# Altium footprint library nnts_brad.PcbLib: 22 footprints (part 1 of 2)
Each footprint in its own frame and in the unit in brackets; x right, y up, seen from the top. Pads: shape width x height; smd on the part's side, far side on the other; paste and mask are expansions set on the pad; w line width, h text height; cw(c..) or ccw(c..) is an arc to the next point about the centre after c.
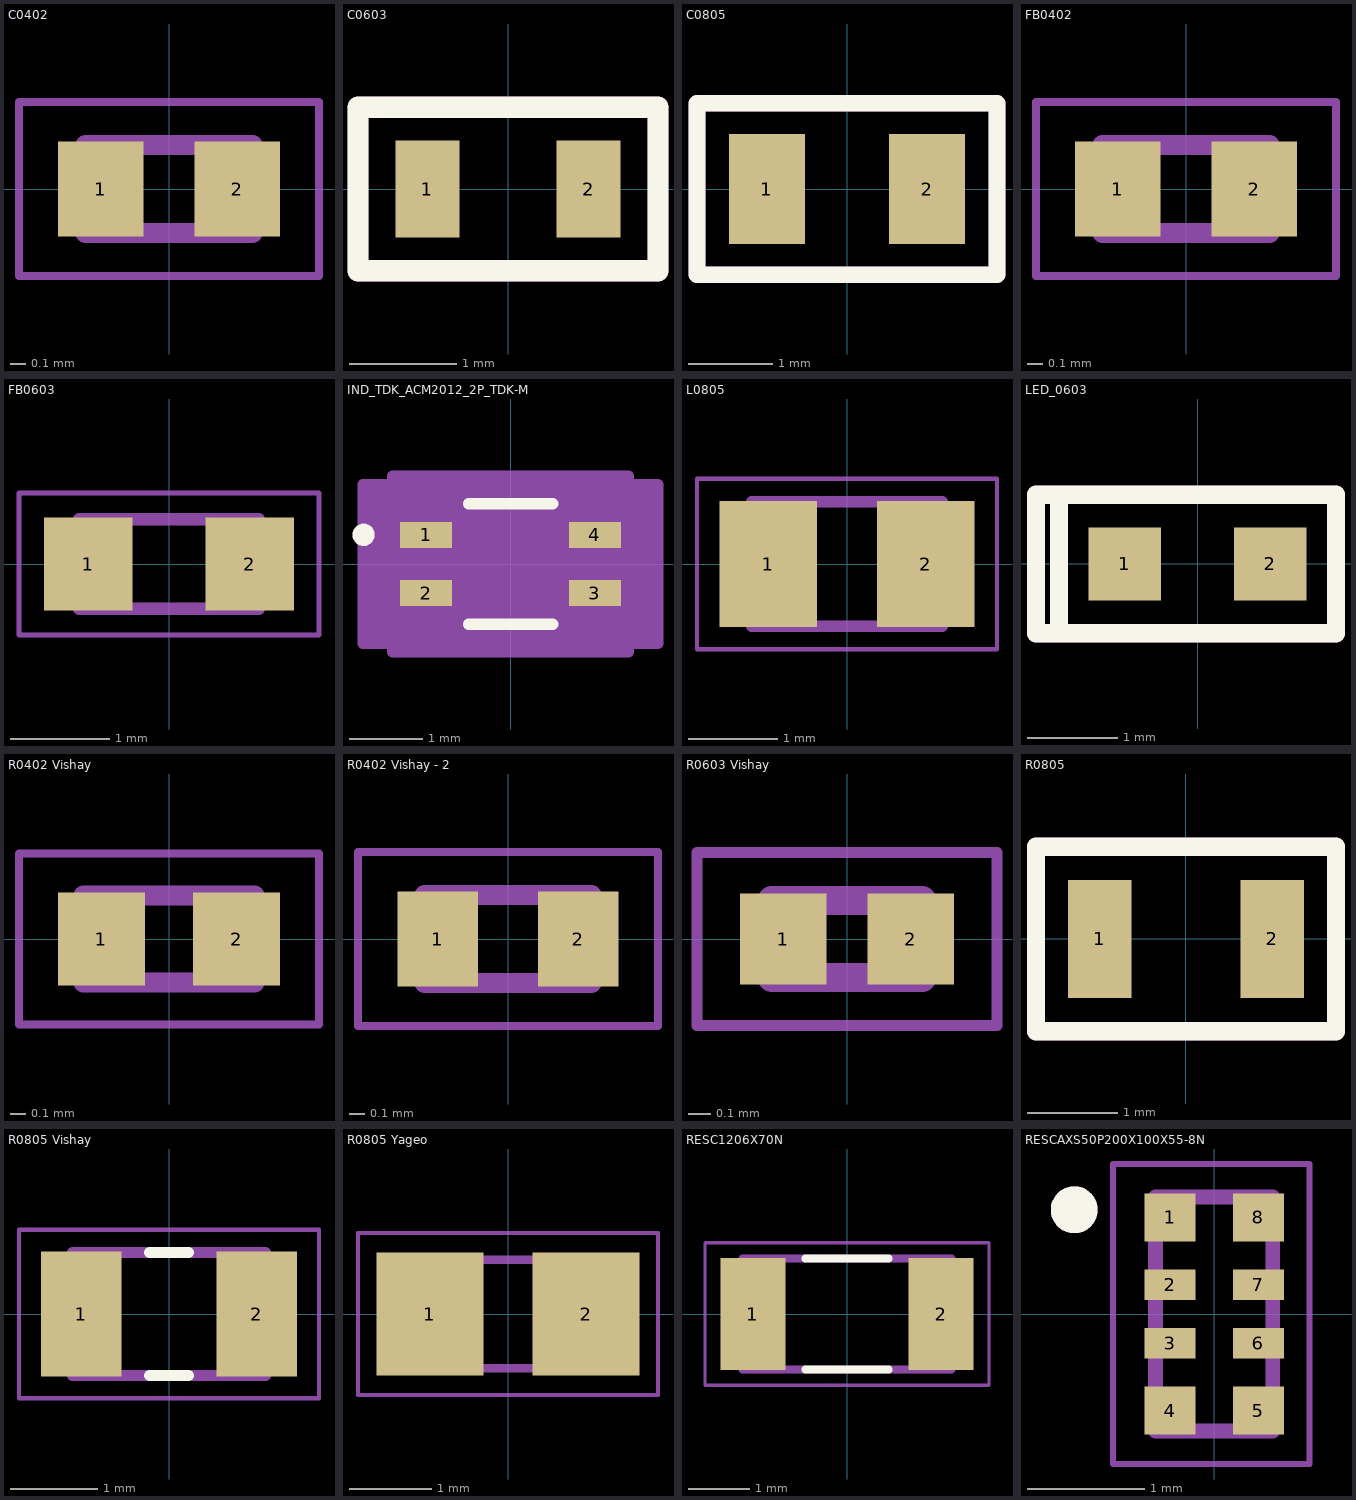
[diagram p0: the footprints below, top view; thin cyan lines are the x and y axes]

## C0402 [mm]
pads (2):
  rect 0.54x0.6 smd: 1(-0.432,0) 2(0.432,0)
Mechanical 13:
  lines w0.127: -0.53,-0.28 -0.53,0.28 0.53,0.28 0.53,-0.28 -0.53,-0.28
Mechanical 15:
  lines w0.05: -0.95,-0.55 -0.95,0.55 0.95,0.55 0.95,-0.55 -0.95,-0.55
3D body "step_temp.STEP": height 0.55, standoff 0, extent -0.5,-0.25 0.5,0.25

## C0603 [mm]
pads (2):
  rect 0.6x0.9 smd: 1(-0.75,0) 2(0.75,0)
Top Overlay:
  lines w0.2: -1.397,-0.762 1.397,-0.762 1.397,0.762 -1.397,0.762 -1.397,-0.762
Mechanical 29:
  lines w0.2: -1.397,-0.762 1.397,-0.762 1.397,0.762 -1.397,0.762 -1.397,-0.762
  text ".Designator" at -0.281,-0.114 h0.5
3D body "CAPC1508X65N EIA 0603.step": height 0.66, standoff 0.01, extent -0.75,-0.4 0.75,0.4

## C0805 [mm]
pads (2):
  rect 0.9x1.3 smd: 1(-0.95,0) 2(0.95,0)
Top Overlay:
  lines w0.2: -1.778,-1.016 1.778,-1.016 1.778,1.016 -1.778,1.016 -1.778,-1.016
Mechanical 29:
  lines w0.2: -1.778,-1.016 1.778,-1.016 1.778,1.016 -1.778,1.016 -1.778,-1.016
  text ".Designator" at -1.018,-0.31 h0.6
3D body "CAPC2012X94N EIA 0805.step": height 0.95, standoff 0.01, extent -1,-0.6 1,0.6

## FB0402 [mm]
pads (2):
  rect 0.54x0.6 smd: 1(-0.432,0) 2(0.432,0)
Mechanical 13:
  lines w0.127: -0.53,-0.28 0.53,-0.28 0.53,0.28 -0.53,0.28 -0.53,-0.28
Mechanical 15:
  lines w0.05: -0.95,-0.55 0.95,-0.55 0.95,0.55 -0.95,0.55 -0.95,-0.55
3D body "BLM15AG102SH1D.STEP": height 0.51, standoff 0.01, extent -0.497,-0.277 0.503,0.273

## FB0603 [mm]
pads (2):
  rect 0.89x0.93 smd: 1(-0.814,0) 2(0.814,0)
Mechanical 13:
  lines w0.127: -0.9,-0.45 0.9,-0.45 0.9,0.45 -0.9,0.45 -0.9,-0.45
Mechanical 15:
  lines w0.05: -1.508,-0.715 1.508,-0.715 1.508,0.715 -1.508,0.715 -1.508,-0.715
3D body "RESC1608X50N EIA 0603.step": height 0.51, standoff 0.01, extent -0.8,-0.4 0.8,0.4

## IND_TDK_ACM2012_2P_TDK-M [mil]
pads (4):
  rect 28x14 smd paste+1 mask+0: 1(-45.5,15.75) 2(-45.5,-15.75) 3(45.5,-15.75) 4(45.5,15.75)
Top Overlay:
  circle w6: c-79.25,15.75 r3
  lines w6: -22.75,-32.5 22.75,-32.5 ; -22.75,32.5 22.75,32.5
Mechanical 13:
  lines w1: -43.5,-27.5 43.5,-27.5 43.5,27.5 -43.5,27.5 -43.5,-27.5
Mechanical 15:
  region: -63.5,-42.75 -79.5,-42.75 -79.5,42.75 -63.5,42.75 -63.5,47.5 63.5,47.5 63.5,42.75 79.5,42.75 79.5,-42.75 63.5,-42.75 63.5,-47.5 -63.5,-47.5
  lines w6: -79.5,-42.75 -79.5,42.75 -63.5,42.75 -63.5,47.5 63.5,47.5 63.5,42.75 79.5,42.75 79.5,-42.75 63.5,-42.75 63.5,-47.5 -63.5,-47.5 -63.5,-42.75 -79.5,-42.75
3D body: height 10, standoff 0, extent 0,0 10,10
3D body "IND_TDK_ACM2012_2P_TDK-M.step": height 51.1, standoff 0, extent -43.5,-27.47 43.51,27.49

## L0805 [mm]
pads (2):
  rect 1.1x1.42 smd: 1(-0.885,0) 2(0.885,0)
Mechanical 13:
  lines w0.127: -1.07,-0.7 -1.07,0.7 1.07,0.7 1.07,-0.7 -1.07,-0.7
Mechanical 15:
  lines w0.05: -1.685,-0.96 -1.685,0.96 1.685,0.96 1.685,-0.96 -1.685,-0.96
3D body "step_temp.STEP": height 1, standoff 0, extent -1,-0.625 1,0.625

## LED_0603 [mm]
pads (2):
  rect 0.8x0.8 smd: 1(-0.8,0) 2(0.8,0)
Top Overlay:
  lines w0.2: -1.524,-0.762 -1.778,-0.762 -1.778,0.762 -1.524,0.762 ; -1.524,-0.762 -1.524,0.762 ; -1.524,-0.762 1.524,-0.762 1.524,0.762 -1.524,0.762
Mechanical 29:
  lines w0.2: -1.651,-0.762 -1.524,-0.762 -1.524,0.762 ; -1.778,-0.762 -1.778,0.762 1.524,0.762 1.524,-0.762 -1.778,-0.762
  text ".Designator" at -0.408,-0.241 h0.5
3D body "User Library-LED SMD 0603 super red.step": height 0.66, standoff 0.01, extent -0.85,-0.4 0.85,0.4
3D body: height 0.67, standoff 0.08, extent -0.254,-0.254 0.254,0.254

## R0402 Vishay [mm]
pads (2):
  rect 0.56x0.6 smd: 1(-0.435,0) 2(0.435,0)
Mechanical 13:
  lines w0.127: -0.55,-0.28 -0.55,0.28 0.55,0.28 0.55,-0.28 -0.55,-0.28
Mechanical 15:
  lines w0.05: -0.965,-0.55 -0.965,0.55 0.965,0.55 0.965,-0.55 -0.965,-0.55
3D body "step_temp.STEP": height 0.35, standoff 0, extent -0.5,-0.25 0.5,0.25

## R0402 Vishay - 2 [mm]
pads (2):
  rect 0.51x0.6 smd: 1(-0.445,0) 2(0.445,0)
Mechanical 13:
  lines w0.127: -0.53,-0.28 0.53,-0.28 0.53,0.28 -0.53,0.28 -0.53,-0.28
Mechanical 15:
  lines w0.05: -0.95,-0.55 0.95,-0.55 0.95,0.55 -0.95,0.55 -0.95,-0.55
3D body "step_temp.STEP": height 0.4, standoff 0, extent -0.5,-0.25 0.5,0.25

## R0603 Vishay [mm]
pads (2):
  rect 0.38x0.4 smd: 1(-0.28,0) 2(0.28,0)
Mechanical 13:
  lines w0.127: -0.33,-0.17 0.33,-0.17 0.33,0.17 -0.33,0.17 -0.33,-0.17
Mechanical 15:
  lines w0.05: -0.66,-0.381 0.66,-0.381 0.66,0.381 -0.66,0.381 -0.66,-0.381
3D body "CRCW020110K0FNED.STEP": height 0.29, standoff 0.01, extent -0.3,-0.152 0.3,0.148

## R0805 [mm]
pads (2):
  rect 0.7x1.3 smd: 1(-0.95,0) 2(0.95,0)
Top Overlay:
  lines w0.2: -1.651,-1.016 1.651,-1.016 1.651,1.016 -1.651,1.016 -1.651,-1.016
Mechanical 29:
  lines w0.2: -1.651,-1.016 1.651,-1.016 1.651,1.016 -1.651,1.016 -1.651,-1.016
3D body "User Library-Chip Resistor2.step": height 0.71, standoff 0.01, extent -1,-0.6 1,0.6

## R0805 Vishay [mm]
pads (2):
  rect 0.92x1.42 smd: 1(-1,0) 2(1,0)
Top Overlay:
  lines w0.127: -0.22,-0.7 0.22,-0.7 ; -0.22,0.7 0.22,0.7
Mechanical 13:
  lines w0.127: -1.1,-0.7 -1.1,0.7 1.1,0.7 1.1,-0.7 -1.1,-0.7
Mechanical 15:
  lines w0.05: -1.71,-0.96 -1.71,0.96 1.71,0.96 1.71,-0.96 -1.71,-0.96
3D body "step_temp.STEP": height 0.5, standoff 0, extent -1,-0.625 1,0.625

## R0805 Yageo [mm]
pads (2):
  rect 1.3x1.5 smd: 1(-0.95,0) 2(0.95,0)
Mechanical 13:
  region: -0.342,-0.724 -1.093,-0.724 -1.093,0.726 -0.342,0.726
  region: 1.106,-0.725 0.356,-0.725 0.356,0.726 1.106,0.726
  lines w0.102: -0.381,0.66 0.381,0.66 ; -0.356,-0.66 0.381,-0.66
Mechanical 15:
  lines w0.051: -1.823,-0.983 1.823,-0.983 1.823,0.983 -1.823,0.983 -1.823,-0.983
3D body "RC0805JR-070RL.STEP": height 0.61, standoff 0.01, extent -1,-0.625 1,0.625

## RESC1206X70N [mm]
pads (2):
  rect 1.06x1.82 smd: 1(-1.528,0) 2(1.528,0)
Top Overlay:
  lines w0.127: -0.68,-0.9 0.68,-0.9 ; -0.68,0.9 0.68,0.9
Mechanical 13:
  lines w0.127: -1.7,-0.9 1.7,-0.9 1.7,0.9 -1.7,0.9 -1.7,-0.9
Mechanical 15:
  lines w0.05: -2.308,-1.158 2.308,-1.158 2.308,1.158 -2.308,1.158 -2.308,-1.158
3D body "CAPC3215X168N EIA 1206.step": height 1.51, standoff 0.01, extent -1.574,-0.838 1.626,0.842

## RESCAXS50P200X100X55-8N [mm]
pads (8):
  rect 0.435x0.41 smd mask+0.051: 1(-0.377,0.825) 4(-0.377,-0.825) 5(0.377,-0.825) 8(0.377,0.825)
  rect 0.435x0.26 smd mask+0.051: 2(-0.377,0.25) 3(-0.377,-0.25) 6(0.377,-0.25) 7(0.377,0.25)
Top Overlay:
  circle w0.2: c-1.194,0.889 r0.1
Mechanical 13:
  circle w0.2: c-1.194,0.889 r0.1
  lines w0.127: -0.5,-1 -0.5,1 0.5,1 0.5,-1 -0.5,-1
Mechanical 15:
  lines w0.05: -0.864,-1.28 -0.864,1.28 0.813,1.28 0.813,-1.28 -0.864,-1.28
3D body "User Library-YC124.STEP": height 0.37, standoff 0.01, extent -0.492,-1 0.508,1